# Altium schematic symbol library Connectors.SCHLIB: 76 symbols
Pins are listed as number, name and electrical type; pins without a type are passive.

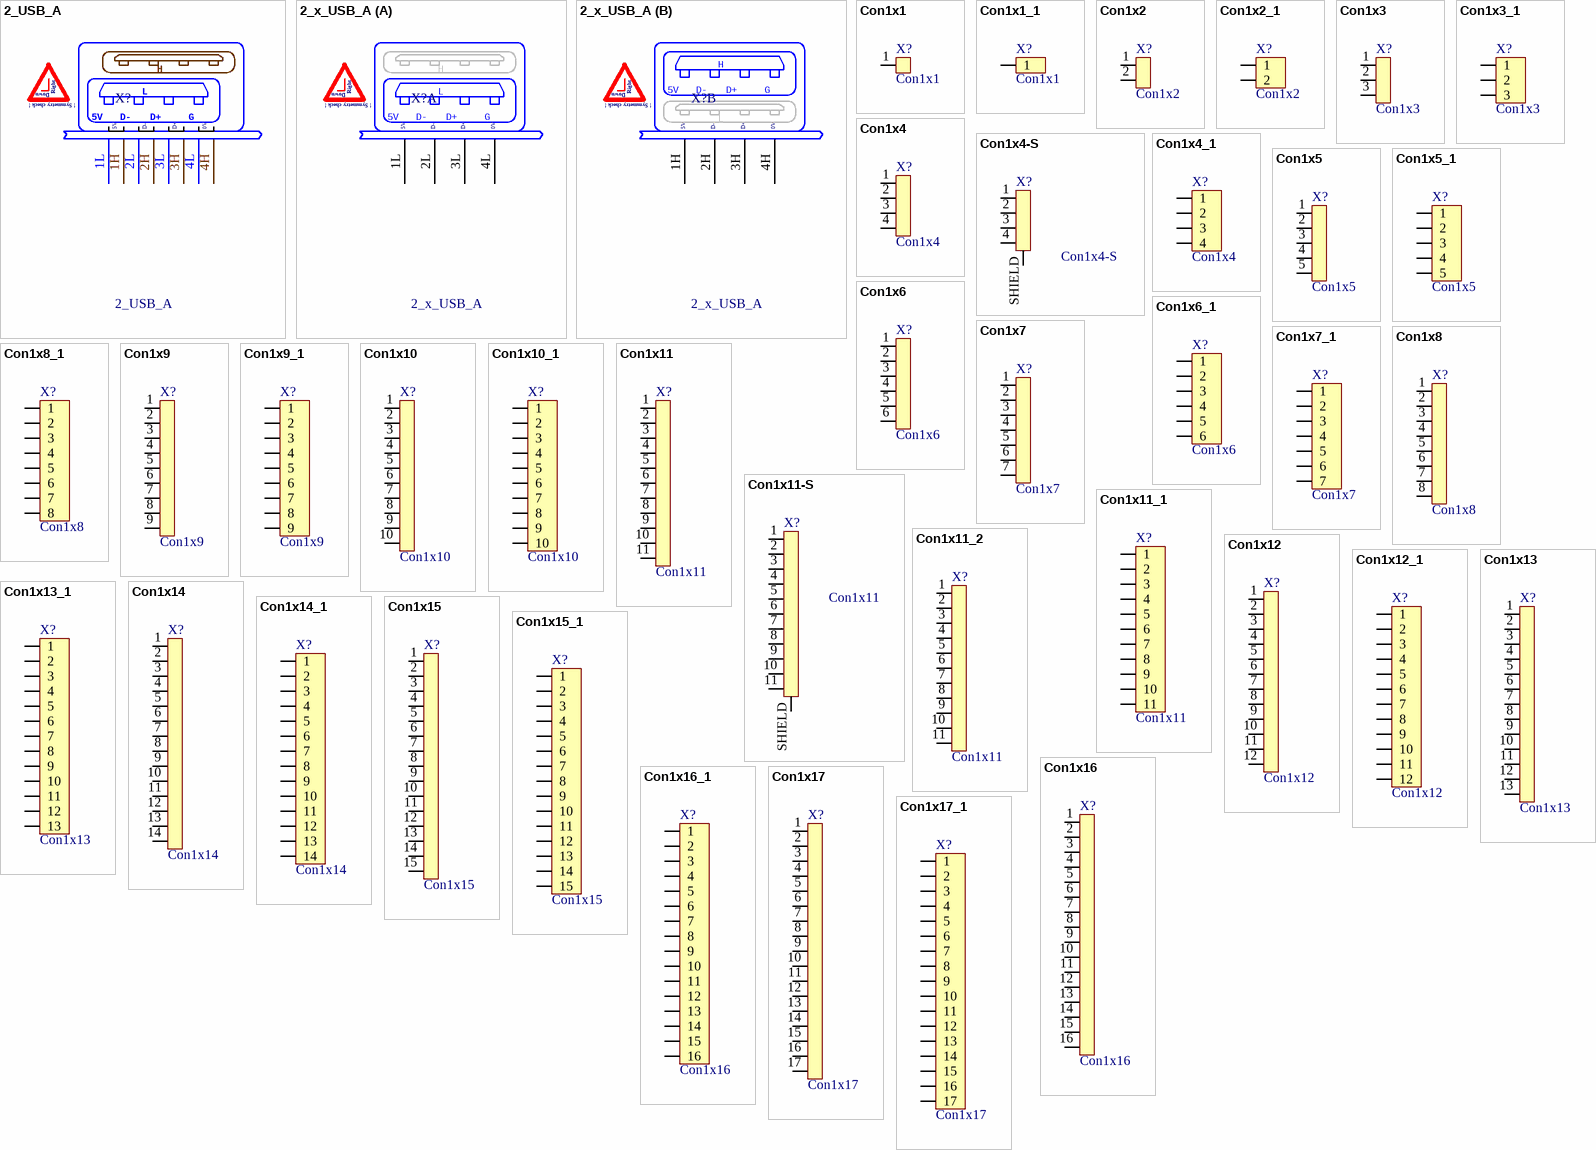
[diagram p0: symbols 2_USB_A to Con1x17_1]

## 2_USB_A
designator X?
2 USB A
footprint C327550_2USBA (Socket, 2 x USB A, THT)
pins: 1H 5V, 1L 5V, 2H D-, 2L D-, 3H D+, 3L D+, 4H 0V, 4L 0V
2 alternate drawings of the same symbol
text: H; Right; L; Down; ! Symmetry check !; G

## 2_x_USB_A
designator X?
2 x USB A
footprint C327550_2USBA (Socket, 2 x USB A, THT)
part A pins: 1L 5V, 2L D-, 3L D+, 4L 0V
part B pins: 1H 5V, 2H D-, 3H D+, 4H 0V
2 alternate drawings of the same symbol
part A text: H; Right; L; Down; ! Symmetry check !; G
part B text: H; Right; G; Down; ! Symmetry check !; L

## Con1x1
designator X?
1 x 1 pins connector
pins: 1

## Con1x1_1
designator X?, comment Con1x1
1 x 1 pins connector
pins: 1

## Con1x2
designator X?
1 x 2 pins connector
pins: 1, 2

## Con1x2_1
designator X?, comment Con1x2
1 x 2 pins connector
pins: 1, 2

## Con1x3
designator X?
1 x 3 pins connector
pins: 1, 2, 3

## Con1x3_1
designator X?, comment Con1x3
1 x 3 pins connector
pins: 1, 2, 3

## Con1x4
designator X?
1 x 4 pins connector
pins: 1, 2, 3, 4

## Con1x4-S
designator X?
1 x 11 pins connector + Shield
pins: 1, 2, 3, 4, SHIELD

## Con1x4_1
designator X?, comment Con1x4
1 x 4 pins connector
pins: 1, 2, 3, 4

## Con1x5
designator X?
1 x 5 pins connector
pins: 1, 2, 3, 4, 5

## Con1x5_1
designator X?, comment Con1x5
1 x 5 pins connector
pins: 1, 2, 3, 4, 5

## Con1x6
designator X?
1 x 6 pins connector
pins: 1, 2, 3, 4, 5, 6

## Con1x6_1
designator X?, comment Con1x6
1 x 6 pins connector
pins: 1, 2, 3, 4, 5, 6

## Con1x7
designator X?
1 x 7 pins connector
pins: 1, 2, 3, 4, 5, 6, 7

## Con1x7_1
designator X?, comment Con1x7
1 x 7 pins connector
pins: 1, 2, 3, 4, 5, 6, 7

## Con1x8
designator X?
1 x 8 pins connector
pins: 1, 2, 3, 4, 5, 6, 7, 8

## Con1x8_1
designator X?, comment Con1x8
1 x 8 pins connector
pins: 1, 2, 3, 4, 5, 6, 7, 8

## Con1x9
designator X?
1 x 9 pins connector
pins: 1, 2, 3, 4, 5, 6, 7, 8, 9

## Con1x9_1
designator X?, comment Con1x9
1 x 9 pins connector
pins: 1, 2, 3, 4, 5, 6, 7, 8, 9

## Con1x10
designator X?
1 x 10 pins connector
pins: 1, 2, 3, 4, 5, 6, 7, 8, 9, 10

## Con1x10_1
designator X?, comment Con1x10
1 x 10 pins connector
pins: 1, 2, 3, 4, 5, 6, 7, 8, 9, 10

## Con1x11
designator X?
1 x 11 pins connector
pins: 1, 2, 3, 4, 5, 6, 7, 8, 9, 10, 11

## Con1x11-S
designator X?, comment Con1x11
1 x 11 pins connector + Shield
pins: 1, 2, 3, 4, 5, 6, 7, 8, 9, 10, 11, SHIELD

## Con1x11_1
designator X?, comment Con1x11
1 x 11 pins connector
pins: 1, 2, 3, 4, 5, 6, 7, 8, 9, 10, 11

## Con1x11_2
designator X?, comment Con1x11
1 x 11 pins connector
pins: 1, 2, 3, 4, 5, 6, 7, 8, 9, 10, 11

## Con1x12
designator X?
1 x 12 pins connector
pins: 1, 2, 3, 4, 5, 6, 7, 8, 9, 10, 11, 12

## Con1x12_1
designator X?, comment Con1x12
1 x 12 pins connector
pins: 1, 2, 3, 4, 5, 6, 7, 8, 9, 10, 11, 12

## Con1x13
designator X?
1 x 13 pins connector
pins: 1, 2, 3, 4, 5, 6, 7, 8, 9, 10, 11, 12, 13

## Con1x13_1
designator X?, comment Con1x13
1 x 13 pins connector
pins: 1, 2, 3, 4, 5, 6, 7, 8, 9, 10, 11, 12, 13

## Con1x14
designator X?
1 x 14 pins connector
pins: 1, 2, 3, 4, 5, 6, 7, 8, 9, 10, 11, 12, 13, 14

## Con1x14_1
designator X?, comment Con1x14
1 x 14 pins connector
pins: 1, 2, 3, 4, 5, 6, 7, 8, 9, 10, 11, 12, 13, 14

## Con1x15
designator X?
1 x 15 pins connector
pins: 1, 2, 3, 4, 5, 6, 7, 8, 9, 10, 11, 12, 13, 14, 15

## Con1x15_1
designator X?, comment Con1x15
1 x 15 pins connector
pins: 1, 2, 3, 4, 5, 6, 7, 8, 9, 10, 11, 12, 13, 14, 15

## Con1x16
designator X?
1 x 16 pins connector
pins: 1, 2, 3, 4, 5, 6, 7, 8, 9, 10, 11, 12, 13, 14, 15, 16

## Con1x16_1
designator X?, comment Con1x16
1 x 16 pins connector
pins: 1, 2, 3, 4, 5, 6, 7, 8, 9, 10, 11, 12, 13, 14, 15, 16

## Con1x17
designator X?
1 x 17 pins connector
pins: 1, 2, 3, 4, 5, 6, 7, 8, 9, 10, 11, 12, 13, 14, 15, 16, 17

## Con1x17_1
designator X?, comment Con1x17
1 x 17 pins connector
pins: 1, 2, 3, 4, 5, 6, 7, 8, 9, 10, 11, 12, 13, 14, 15, 16, 17

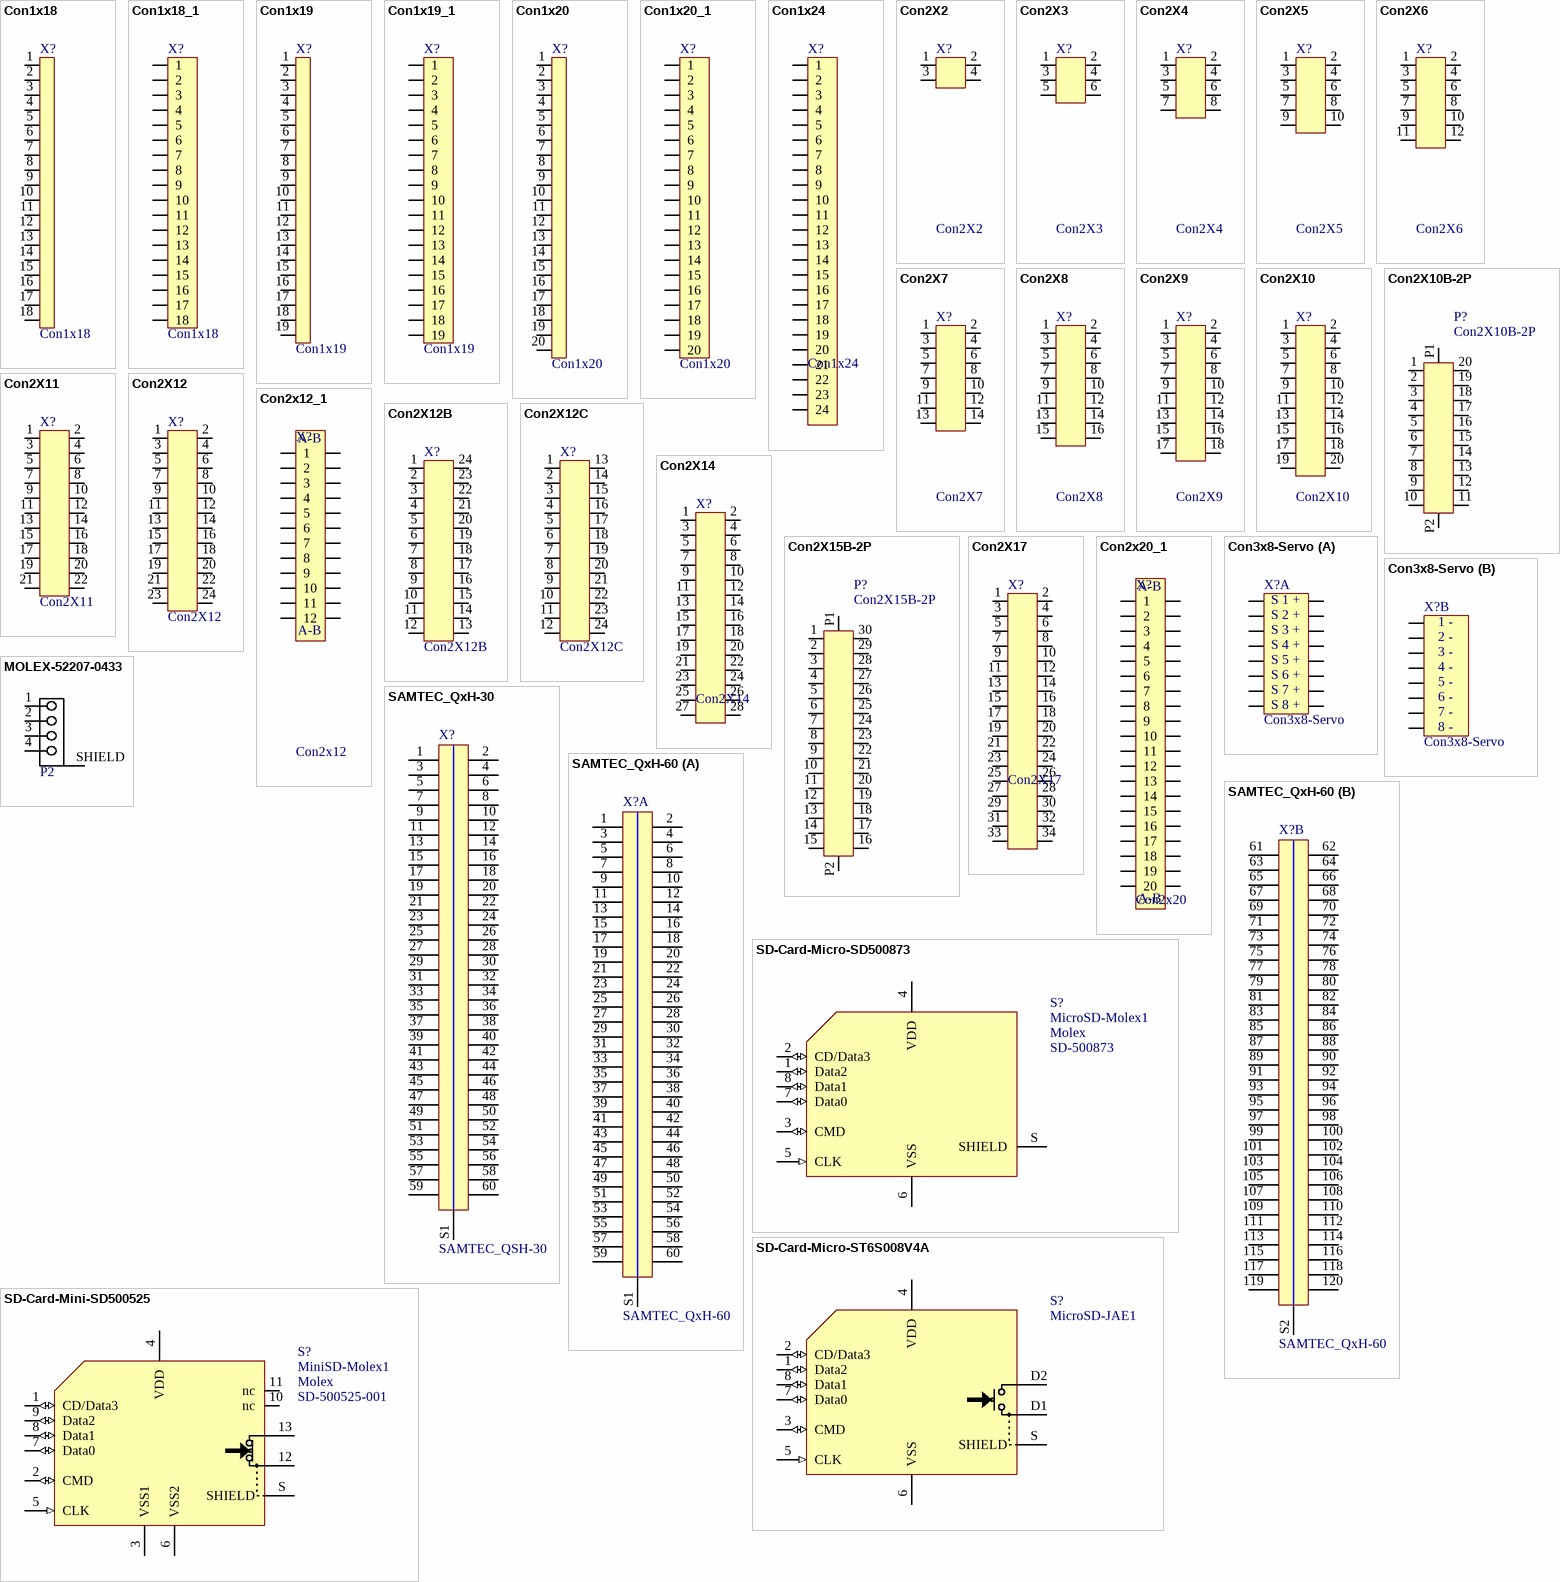
[diagram p1: symbols Con1x18 to SD-Card-Mini-SD500525]

## Con1x18
designator X?
1 x 18 pins connector
pins: 1, 2, 3, 4, 5, 6, 7, 8, 9, 10, 11, 12, 13, 14, 15, 16, 17, 18

## Con1x18_1
designator X?, comment Con1x18
1 x 18 pins connector
pins: 1, 2, 3, 4, 5, 6, 7, 8, 9, 10, 11, 12, 13, 14, 15, 16, 17, 18

## Con1x19
designator X?
1 x 19 pins connector
pins: 1, 2, 3, 4, 5, 6, 7, 8, 9, 10, 11, 12, 13, 14, 15, 16, 17, 18, 19

## Con1x19_1
designator X?, comment Con1x19
1 x 19 pins connector
pins: 1, 2, 3, 4, 5, 6, 7, 8, 9, 10, 11, 12, 13, 14, 15, 16, 17, 18, 19

## Con1x20
designator X?
1 x 20 pins connector
pins: 1, 2, 3, 4, 5, 6, 7, 8, 9, 10, 11, 12, 13, 14, 15, 16, 17, 18, 19, 20

## Con1x20_1
designator X?, comment Con1x20
1 x 20 pins connector
pins: 1, 2, 3, 4, 5, 6, 7, 8, 9, 10, 11, 12, 13, 14, 15, 16, 17, 18, 19, 20

## Con1x24
designator X?
1 x 24 pins connector
pins: 1, 2, 3, 4, 5, 6, 7, 8, 9, 10, 11, 12, 13, 14, 15, 16, 17, 18, 19, 20, 21, 22, 23, 24

## Con2X2
designator X?
2 x 2 pins connector
pins: 1, 2, 3, 4

## Con2X3
designator X?
2 x 3 pins connector
pins: 1, 2, 3, 4, 5, 6

## Con2X4
designator X?
2 x 4 pins connector
pins: 1, 2, 3, 4, 5, 6, 7, 8

## Con2X5
designator X?
2 x 5 pins connector
pins: 1, 2, 3, 4, 5, 6, 7, 8, 9, 10

## Con2X6
designator X?
2 x 6 pins connector
pins: 1, 2, 3, 4, 5, 6, 7, 8, 9, 10, 11, 12

## Con2X7
designator X?
2 x 7 pins connector
pins: 1, 2, 3, 4, 5, 6, 7, 8, 9, 10, 11, 12, 13, 14

## Con2X8
designator X?
2 x 8 pins connector
pins: 1, 2, 3, 4, 5, 6, 7, 8, 9, 10, 11, 12, 13, 14, 15, 16

## Con2X9
designator X?
2 x 9 pins connector
pins: 1, 2, 3, 4, 5, 6, 7, 8, 9, 10, 11, 12, 13, 14, 15, 16, 17, 18

## Con2X10
designator X?
2 x 10 pins connector
pins: 1, 2, 3, 4, 5, 6, 7, 8, 9, 10, 11, 12, 13, 14, 15, 16, 17, 18, 19, 20

## Con2X10B-2P
designator P?
2 x 10 pins + 2 x power connector, B numbering
pins: 1, 2, 3, 4, 5, 6, 7, 8, 9, 10, 11, 12, 13, 14, 15, 16, 17, 18, 19, 20, P1, P2

## Con2X11
designator X?
2 x 11 pins connector
pins: 1, 2, 3, 4, 5, 6, 7, 8, 9, 10, 11, 12, 13, 14, 15, 16, 17, 18, 19, 20, 21, 22

## Con2X12
designator X?
2 x 12 pins connector
pins: 1, 2, 3, 4, 5, 6, 7, 8, 9, 10, 11, 12, 13, 14, 15, 16, 17, 18, 19, 20, 21, 22, 23, 24

## Con2x12_1
designator X?, comment Con2x12
2 x 12 pins connector
pins: A1 1, A2 2, A3 3, A4 4, A5 5, A6 6, A7 7, A8 8, A9 9, A10 10, A11 11, A12 12, B1 1, B2 2, B3 3, B4 4, B5 5, B6 6, B7 7, B8 8, B9 9, B10 10, B11 11, B12 12
text: A-B

## Con2X12B
designator X?
2 x 12 pins connector, B numbering
pins: 1, 2, 3, 4, 5, 6, 7, 8, 9, 10, 11, 12, 13, 14, 15, 16, 17, 18, 19, 20, 21, 22, 23, 24

## Con2X12C
designator X?
2 x 12 pins connector, C numbering
pins: 1, 2, 3, 4, 5, 6, 7, 8, 9, 10, 11, 12, 13, 14, 15, 16, 17, 18, 19, 20, 21, 22, 23, 24

## Con2X14
designator X?
2 x 14 pins connector
pins: 1, 2, 3, 4, 5, 6, 7, 8, 9, 10, 11, 12, 13, 14, 15, 16, 17, 18, 19, 20, 21, 22, 23, 24, 25, 26, 27, 28

## Con2X15B-2P
designator P?
2 x 15 pins + 2 x power connector, B numbering
pins: 1, 2, 3, 4, 5, 6, 7, 8, 9, 10, 11, 12, 13, 14, 15, 16, 17, 18, 19, 20, 21, 22, 23, 24, 25, 26, 27, 28, 29, 30, P1, P2

## Con2X17
designator X?
2 x 17 pins connector
pins: 1, 2, 3, 4, 5, 6, 7, 8, 9, 10, 11, 12, 13, 14, 15, 16, 17, 18, 19, 20, 21, 22, 23, 24, 25, 26, 27, 28, 29 28, 30 29, 31 29, 32 30, 33 30, 34 31

## Con2x20_1
designator X?, comment Con2x20
2 x 20 pins connector
pins: 1A 1, 1B 1, 2A 2, 2B 2, 3A 3, 3B 3, 4A 4, 4B 4, 5A 5, 5B 5, 6A 6, 6B 6, 7A 7, 7B 7, 8A 8, 8B 8, 9A 9, 9B 9, 10A 10, 10B 10, 11A 11, 11B 11, 12A 12, 12B 12, 13A 13, 13B 13, 14A 14, 14B 14, 15A 15, 15B 15, 16A 16, 16B 16, 17A 17, 17B 17, 18A 18, 18B 18, 19A 19, 19B 19, 20A 20, 20B 20
text: A-B

## Con3x8-Servo
designator X?
3 x 8 pins connector for Servos usage
footprint TIP100Mx8-Servo (Triple In-line Package 2,54mm, 8 x Male 3 pins for servo usage)
part A pins: 1+, 1S, 2+, 2S, 3+, 3S, 4+, 4S, 5+, 5S, 6+, 6S, 7+, 7S, 8+, 8S
part B pins: 1-, 2-, 3-, 4-, 5-, 6-, 7-, 8-
part A text: S 1 +; S 2 +; S 3 +; S 4 +; S 5 +; S 6 +; S 7 +; S 8 +
part B text: 1 -; 2 -; 3 -; 4 -; 5 -; 6 -; 7 -; 8 -

## MOLEX-52207-0433
designator P2  (value not drawn)
footprint Molex 52207-0433
pins: 1, 2, 3, 4, SHIELD

## SAMTEC_QxH-30
designator X?, comment SAMTEC_QSH-30
Connector Samtec, Serie QTH or QSH, 1 x (2 x 30 + 1) contacts
footprint QSH030-01-X-D-A (Hi-Speed Socket, 0.5mm connector)
footprint QTH030-01-X-D-A (Hi-Speed Header, 0.5mm connector, 5mm mated height with QSH)
footprint QTH030-02-X-D-A (Hi-Speed Header, 0.5mm connector, 8mm mated height with QSH)
pins: 1, 2, 3, 4, 5, 6, 7, 8, 9, 10, 11, 12, 13, 14, 15, 16, 17, 18, 19, 20, 21, 22, 23, 24, 25, 26, 27, 28, 29, 30, 31, 32, 33, 34, 35, 36, 37, 38, 39, 40, 41, 42, 43, 44, 45, 46, 47, 48, 49, 50, 51, 52, 53, 54, 55, 56, 57, 58, 59, 60, S1
1 alternate drawing of the same symbol

## SAMTEC_QxH-60
designator X?
Connector Samtec, Serie QTH or QSH, 2 x (2 x 30 + 1) contacts
footprint QSH060-01-X-D-A (Hi-Speed Socket, 0.5mm)
footprint QTH060-01-X-D-A (Hi-Speed Header, 0.5mm connector, 5mm mated height with QSH)
footprint QTH060-02-X-D-A (Hi-Speed Header, 0.5mm connector, 8mm mated height with QSH)
part A pins: 1, 2, 3, 4, 5, 6, 7, 8, 9, 10, 11, 12, 13, 14, 15, 16, 17, 18, 19, 20, 21, 22, 23, 24, 25, 26, 27, 28, 29, 30, 31, 32, 33, 34, 35, 36, 37, 38, 39, 40, 41, 42, 43, 44, 45, 46, 47, 48, 49, 50, 51, 52, 53, 54, 55, 56, 57, 58, 59, 60, S1
part B pins: 61, 62, 63, 64, 65, 66, 67, 68, 69, 70, 71, 72, 73, 74, 75, 76, 77, 78, 79, 80, 81, 82, 83, 84, 85, 86, 87, 88, 89, 90, 91, 92, 93, 94, 95, 96, 97, 98, 99, 100, 101, 102, 103, 104, 105, 106, 107, 108, 109, 110, 111, 112, 113, 114, 115, 116, 117, 118, 119, 120, S2
1 alternate drawing of the same symbol

## SD-Card-Micro-SD500873
designator S?, comment MicroSD-Molex1  Manufacturer: Molex  MFG Part Number: SD-500873
MicroSD Card connector SD500873; Farnell: 1211004
footprint Molex_SD-500873 (MICRO SD/TransFlash Memory Card Connector)
pins: 1 Data2 (io), 2 CD/Data3 (io), 3 CMD (io), 4 VDD (power), 5 CLK (in), 6 VSS (power), 7 Data0 (io), 8 Data1 (io), S SHIELD

## SD-Card-Micro-ST6S008V4A
designator S?, comment MicroSD-JAE1
MicroSD Card connector ST6S008V4A
pins: 1 Data2 (io), 2 CD/Data3 (io), 3 CMD (io), 4 VDD (power), 5 CLK (in), 6 VSS (power), 7 Data0 (io), 8 Data1 (io), D1 CD_A, D2 CD_B, S SHIELD

## SD-Card-Mini-SD500525
designator S?, comment MiniSD-Molex1  Manufacturer: Molex  MFG Part Number: SD-500525-001
MiniSD Card connector Molex 500525; Farnell: 8755604
footprint Molex_SD-500525 (MINI SD Memory Card Connector)
pins: 1 CD/Data3 (io), 2 CMD (io), 3 VSS1 (power), 4 VDD (power), 5 CLK (in), 6 VSS2 (power), 7 Data0 (io), 8 Data1 (io), 9 Data2 (io), 10 nc, 11 nc, 12 CD_A, 13 CD_B, S SHIELD

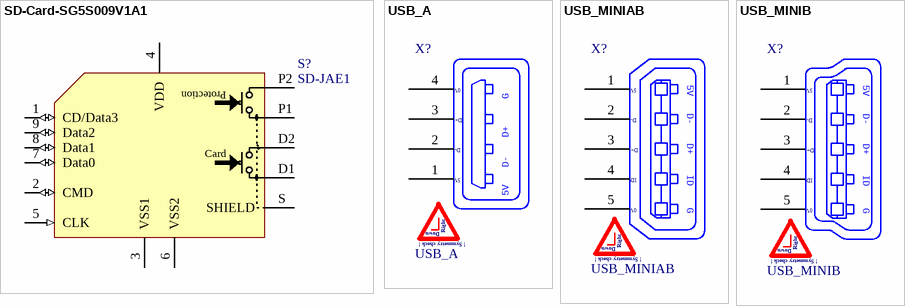
[diagram p2: symbols SD-Card-SG5S009V1A1 to USB_MINIB]

## SD-Card-SG5S009V1A1
designator S?, comment SD-JAE1
SD Card connector SG5S009V1A1
pins: 1 CD/Data3 (io), 2 CMD (io), 3 VSS1 (power), 4 VDD (power), 5 CLK (in), 6 VSS2 (power), 7 Data0 (io), 8 Data1 (io), 9 Data2 (io), D1 CD_A, D2 CD_B, P1 PD_A, P2 PD_B, S SHIELD
text: Protection; Card

## USB_A
designator X?
USB A
footprint C327551_USBA-SMD (Socket, USB A, SMD)
pins: 1 5V, 2 D-, 3 D+, 4 0V
2 alternate drawings of the same symbol
text: G; Right; Down; ! Symmetry check !

## USB_MINIAB
designator X?
USB connector MiniAB
footprint USBMINIAB-SMD-C327584
pins: 1 5V, 2 D-, 3 D+, 4 ID, 5 0V
2 alternate drawings of the same symbol
text: G; Right; Down; ! Symmetry check !

## USB_MINIB
designator X?
USB connector MiniB
pins: 1 5V, 2 D-, 3 D+, 4 ID, 5 0V
2 alternate drawings of the same symbol
text: G; Right; Down; ! Symmetry check !